# EAGLE library part STM32F103C8T6_40P (library micro-board)
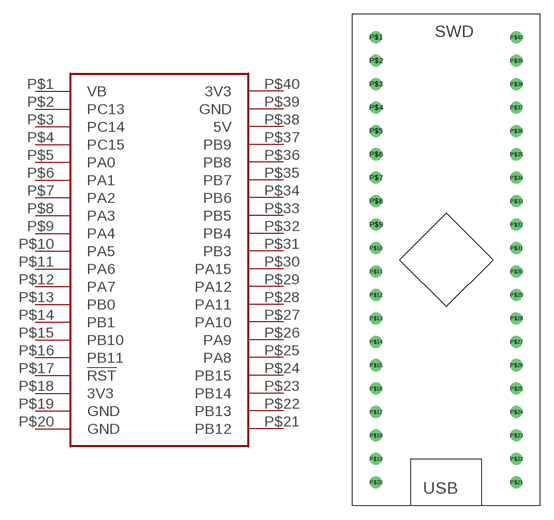
[diagram p0: symbol with the pads of STM32F103C8T6_40P; footprint STM32F103C8T6_40P]

Designator prefix -

## STM32F103C8T6_40P  [STM32F103C8T6_40P]
P$1  VB
P$2  PC13
P$3  PC14
P$4  PC15
P$5  PA0
P$6  PA1
P$7  PA2
P$8  PA3
P$9  PA4
P$10  PA5
P$11  PA6
P$12  PA7
P$13  PB0
P$14  PB1
P$15  PB10
P$16  PB11
P$17  !RST
P$18  3V3
P$19  GND
P$20  GND
P$21  PB12
P$22  PB13
P$23  PB14
P$24  PB15
P$25  PA8
P$26  PA9
P$27  PA10
P$28  PA11
P$29  PA12
P$30  PA15
P$31  PB3
P$32  PB4
P$33  PB5
P$34  PB6
P$35  PB7
P$36  PB8
P$37  PB9
P$38  5V
P$39  GND
P$40  3V3

## Footprint STM32F103C8T6_40P (pad centres in mm)
drill 0.8: P$1 -7.62,24.13; P$2 -7.62,21.59; P$3 -7.62,19.05; P$4 -7.62,16.51; P$5 -7.62,13.97; P$6 -7.62,11.43; P$7 -7.62,8.89; P$8 -7.62,6.35; P$9 -7.62,3.81; P$10 -7.62,1.27; P$11 -7.62,-1.27; P$12 -7.62,-3.81; P$13 -7.62,-6.35; P$14 -7.62,-8.89; P$15 -7.62,-11.43; P$16 -7.62,-13.97; P$17 -7.62,-16.51; P$18 -7.62,-19.05; P$19 -7.62,-21.59; P$20 -7.62,-24.13; P$21 7.62,-24.13; P$22 7.62,-21.59; P$23 7.62,-19.05; P$24 7.62,-16.51; P$25 7.62,-13.97; P$26 7.62,-11.43; P$27 7.62,-8.89; P$28 7.62,-6.35; P$29 7.62,-3.81; P$30 7.62,-1.27; P$31 7.62,1.27; P$32 7.62,3.81; P$33 7.62,6.35; P$34 7.62,8.89; P$35 7.62,11.43; P$36 7.62,13.97; P$37 7.62,16.51; P$38 7.62,19.05; P$39 7.62,21.59; P$40 7.62,24.13